# Altium schematic symbol library domino-rising-cage-clamp.SchLib: 435 symbols (part 1 of 7)
Pins are listed as number, name and electrical type; pins without a type are passive.

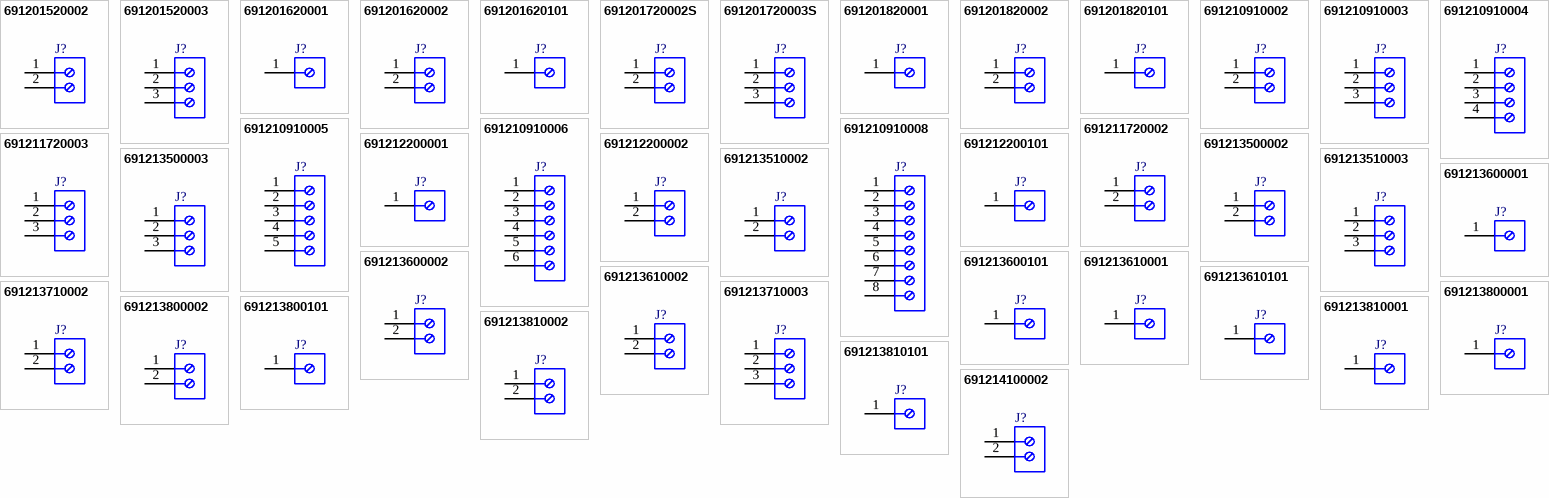
[diagram p0: symbols 691201520002 to 691214100002]

## 691201520002
designator J?
WR-TBL Serie 2015 45deg Entry Modular, Rising Cage Clamp, pitch 5.08mm, 2p; Part Number: 691201520002; Compliance: ROHS & Reach; Modularity: Yes; PCB/Cable/Panel: PCB; Pin Number: 2; Rated Current [UL]: 16A; Working Voltage [UL]: 300VAC; ComponentLink1Description: Manufacturer; ComponentLink1URL: http://www.we-online.de; ComponentLink2URL: https://katalog.we-online.de/em/datasheet/691201520002.pdf; ComponentLink2Description: Datasheet; Mounting Technology: THT; Packaging: Box; Operating Temperature: -30 to +120degC; Pitch: 5.08mm; Published Date: October 2019; Type: 45deg; Publisher: Wurth Elektronik; Application: Rising Cage Clamp
footprint 691201520002
pins: 1, 2

## 691201520003
designator J?
WR-TBL Serie 2015 45deg Entry Modular, Rising Cage Clamp, pitch 5.08mm, 3p; Part Number: 691201520003; Compliance: ROHS & Reach; Modularity: Yes; PCB/Cable/Panel: PCB; Pin Number: 3; Rated Current [UL]: 16A; Working Voltage [UL]: 300VAC; ComponentLink1Description: Manufacturer; ComponentLink1URL: http://www.we-online.de; ComponentLink2URL: https://katalog.we-online.de/em/datasheet/691201520003.pdf; ComponentLink2Description: Datasheet; Mounting Technology: THT; Packaging: Box; Operating Temperature: -30 to +120degC; Pitch: 5.08mm; Published Date: October 2019; Type: 45deg; Publisher: Wurth Elektronik; Application: Rising Cage Clamp
footprint 691201520003
pins: 1, 2, 3

## 691201620001
designator J?
WR-TBL Serie 2016 45deg Entry, Rising Cage Clamp, pitch 10.16mm, 1p; Part Number: 691201620001; Compliance: Lead free / RoHS; Modularity: Yes; PCB/Cable/Panel: PCB; Pin Number: 1; Rated Current [UL]: 16A; Working Voltage [UL]: 300VAC; ComponentLink1Description: Manufacturer; ComponentLink1URL: http://www.we-online.de; ComponentLink2URL: https://katalog.we-online.de/em/datasheet/691201620001.pdf; ComponentLink2Description: Datasheet; Mounting Technology: THT; Packaging: Box; Operating Temperature: -30 to +120degC; Pitch: 10.16mm; Published Date: October 2019; Type: 45deg; Publisher: Wurth Elektronik; Application: Rising Cage Clamp
footprint 691201620001
pins: 1

## 691201620002
designator J?
WR-TBL Serie 2016 45deg Entry, Rising Cage Clamp, pitch 10.16mm, 2p; Part Number: 691201620002; Compliance: Lead free / RoHS; Modularity: Yes; PCB/Cable/Panel: PCB; Pin Number: 2; Rated Current [UL]: 16A; Working Voltage [UL]: 300VAC; ComponentLink1Description: Manufacturer; ComponentLink1URL: http://www.we-online.de; ComponentLink2URL: https://katalog.we-online.de/em/datasheet/691201620002.pdf; ComponentLink2Description: Datasheet; Mounting Technology: THT; Packaging: Box; Operating Temperature: -30 to +120degC; Pitch: 10.16mm; Published Date: October 2019; Type: 45deg; Publisher: Wurth Elektronik; Application: Rising Cage Clamp
footprint 691201620002
pins: 1, 2

## 691201620101
designator J?
WR-TBL Serie 2016 45deg Entry, Rising Cage Clamp, pitch 10.16mm, 1p; Part Number: 691201620101; Compliance: Lead free / RoHS; Modularity: Yes; PCB/Cable/Panel: PCB; Pin Number: 1; Rated Current [UL]: 16A; Working Voltage [UL]: 300VAC; ComponentLink1Description: Manufacturer; ComponentLink1URL: http://www.we-online.de; ComponentLink2URL: https://katalog.we-online.de/em/datasheet/691201620101.pdf; ComponentLink2Description: Datasheet; Mounting Technology: THT; Packaging: Box; Operating Temperature: -30 to +120degC; Pitch: 10.16mm; Published Date: October 2019; Type: 45deg; Publisher: Wurth Elektronik; Application: Rising Cage Clamp
footprint 691201620101
pins: 1

## 691201720002S
designator J?
WR-TBL Serie 201S 45deg Entry Modular, Rising Cage Clamp, pitch 5mm, 2p; Part Number: 691201720002S; Compliance: Lead free / RoHS; Modularity: Yes; PCB/Cable/Panel: PCB; Pin Number: 2; Rated Current [UL]: 16A; Working Voltage [UL]: 300VAC; ComponentLink1Description: Manufacturer; ComponentLink1URL: http://www.we-online.de; ComponentLink2URL: https://katalog.we-online.de/em/datasheet/691201720002S.pdf; ComponentLink2Description: Datasheet; Mounting Technology: THT; Packaging: Box; Operating Temperature: -30 to +120degC; Pitch: 5mm; Published Date: October 2019; Type: 45deg; Publisher: Wurth Elektronik; Application: Rising Cage Clamp
footprint 691201720002S
pins: 1, 2

## 691201720003S
designator J?
WR-TBL Serie 201S 45deg Entry Modular, Rising Cage Clamp, pitch 5mm, 3p; Part Number: 691201720003S; Compliance: Lead free / RoHS; Modularity: Yes; PCB/Cable/Panel: PCB; Pin Number: 3; Rated Current [UL]: 16A; Working Voltage [UL]: 300VAC; ComponentLink1Description: Manufacturer; ComponentLink1URL: http://www.we-online.de; ComponentLink2URL: https://katalog.we-online.de/em/datasheet/691201720003S.pdf; ComponentLink2Description: Datasheet; Mounting Technology: THT; Packaging: Box; Operating Temperature: -30 to +120degC; Pitch: 5mm; Published Date: October 2019; Type: 45deg; Publisher: Wurth Elektronik; Application: Rising Cage Clamp
footprint 691201720003S
pins: 1, 2, 3

## 691201820001
designator J?
WR-TBL Serie 2018 45deg Entry, Rising Cage Clamp, pitch 10mm, 1p; Part Number: 691201820001; Compliance: Lead free / RoHS; Modularity: Yes; PCB/Cable/Panel: PCB; Pin Number: 1; Rated Current [UL]: 16A; Working Voltage [UL]: 300VAC; ComponentLink1Description: Manufacturer; ComponentLink1URL: http://www.we-online.de; ComponentLink2URL: https://katalog.we-online.de/em/datasheet/691201820001.pdf; ComponentLink2Description: Datasheet; Mounting Technology: THT; Packaging: Box; Operating Temperature: -30 to +120degC; Pitch: 10mm; Published Date: October 2019; Type: 45deg; Publisher: Wurth Elektronik; Application: Rising Cage Clamp
footprint 691201820001
pins: 1

## 691201820002
designator J?
WR-TBL Serie 2018 45deg Entry, Rising Cage Clamp, pitch 10mm, 2p; Part Number: 691201820002; Compliance: Lead free / RoHS; Modularity: Yes; PCB/Cable/Panel: PCB; Pin Number: 2; Rated Current [UL]: 16A; Working Voltage [UL]: 300VAC; ComponentLink1Description: Manufacturer; ComponentLink1URL: http://www.we-online.de; ComponentLink2URL: https://katalog.we-online.de/em/datasheet/691201820002.pdf; ComponentLink2Description: Datasheet; Mounting Technology: THT; Packaging: Box; Operating Temperature: -30 to +120degC; Pitch: 10mm; Published Date: October 2019; Type: 45deg; Publisher: Wurth Elektronik; Application: Rising Cage Clamp
footprint 691201820002
pins: 1, 2

## 691201820101
designator J?
WR-TBL Serie 2018 45deg Entry, Rising Cage Clamp, pitch 10mm, 1p; Part Number: 691201820101; Compliance: Lead free / RoHS; Modularity: Yes; PCB/Cable/Panel: PCB; Pin Number: 1; Rated Current [UL]: 16A; Working Voltage [UL]: 300VAC; ComponentLink1Description: Manufacturer; ComponentLink1URL: http://www.we-online.de; ComponentLink2URL: https://katalog.we-online.de/em/datasheet/691201820101.pdf; ComponentLink2Description: Datasheet; Mounting Technology: THT; Packaging: Box; Operating Temperature: -30 to +120degC; Pitch: 10mm; Published Date: October 2019; Type: 45deg; Publisher: Wurth Elektronik; Application: Rising Cage Clamp
footprint 691201820101
pins: 1

## 691210910002
designator J?
WR-TBL Serie 2109 Horizontal Entry, Rising Cage Clamp, pitch 2.54mm, 2p; Part Number: 691210910002; Compliance: Lead free / RoHS; Modularity: No; PCB/Cable/Panel: PCB; Pin Number: 2; Rated Current [UL]: 6A; Working Voltage [UL]: 150VAC; ComponentLink1Description: Manufacturer; ComponentLink1URL: http://www.we-online.de; ComponentLink2URL: https://katalog.we-online.de/em/datasheet/691210910002.pdf; ComponentLink2Description: Datasheet; Mounting Technology: THT; Packaging: Box; Operating Temperature: -40 to +105degC; Pitch: 2.54mm; Published Date: October 2019; Type: Horizontal; Publisher: Wurth Elektronik; Application: Rising Cage Clamp
footprint 691210910002
pins: 1, 2

## 691210910003
designator J?
WR-TBL Serie 2109 Horizontal Entry, Rising Cage Clamp, pitch 2.54mm, 3p; Part Number: 691210910003; Compliance: Lead free / RoHS; Modularity: No; PCB/Cable/Panel: PCB; Pin Number: 3; Rated Current [UL]: 6A; Working Voltage [UL]: 150VAC; ComponentLink1Description: Manufacturer; ComponentLink1URL: http://www.we-online.de; ComponentLink2URL: https://katalog.we-online.de/em/datasheet/691210910003.pdf; ComponentLink2Description: Datasheet; Mounting Technology: THT; Packaging: Box; Operating Temperature: -40 to +105degC; Pitch: 2.54mm; Published Date: October 2019; Type: Horizontal; Publisher: Wurth Elektronik; Application: Rising Cage Clamp
footprint 691210910003
pins: 1, 2, 3

## 691210910004
designator J?
WR-TBL Serie 2109 Horizontal Entry, Rising Cage Clamp, pitch 2.54mm, 4p; Part Number: 691210910004; Compliance: Lead free / RoHS; Modularity: No; PCB/Cable/Panel: PCB; Pin Number: 4; Rated Current [UL]: 6A; Working Voltage [UL]: 150VAC; ComponentLink1Description: Manufacturer; ComponentLink1URL: http://www.we-online.de; ComponentLink2URL: https://katalog.we-online.de/em/datasheet/691210910004.pdf; ComponentLink2Description: Datasheet; Mounting Technology: THT; Packaging: Box; Operating Temperature: -40 to +105degC; Pitch: 2.54mm; Published Date: October 2019; Type: Horizontal; Publisher: Wurth Elektronik; Application: Rising Cage Clamp
footprint 691210910004
pins: 1, 2, 3, 4

## 691210910005
designator J?
WR-TBL Serie 2109 Horizontal Entry, Rising Cage Clamp, pitch 2.54mm, 5p; Part Number: 691210910005; Compliance: Lead free / RoHS; Modularity: No; PCB/Cable/Panel: PCB; Pin Number: 5; Rated Current [UL]: 6A; Working Voltage [UL]: 150VAC; ComponentLink1Description: Manufacturer; ComponentLink1URL: http://www.we-online.de; ComponentLink2URL: https://katalog.we-online.de/em/datasheet/691210910005.pdf; ComponentLink2Description: Datasheet; Mounting Technology: THT; Packaging: Box; Operating Temperature: -40 to +105degC; Pitch: 2.54mm; Published Date: October 2019; Type: Horizontal; Publisher: Wurth Elektronik; Application: Rising Cage Clamp
footprint 691210910005
pins: 1, 2, 3, 4, 5

## 691210910006
designator J?
WR-TBL Serie 2109 Horizontal Entry, Rising Cage Clamp, pitch 2.54mm, 6p; Part Number: 691210910006; Compliance: Lead free / RoHS; Modularity: No; PCB/Cable/Panel: PCB; Pin Number: 6; Rated Current [UL]: 6A; Working Voltage [UL]: 150VAC; ComponentLink1Description: Manufacturer; ComponentLink1URL: http://www.we-online.de; ComponentLink2URL: https://katalog.we-online.de/em/datasheet/691210910006.pdf; ComponentLink2Description: Datasheet; Mounting Technology: THT; Packaging: Box; Operating Temperature: -40 to +105degC; Pitch: 2.54mm; Published Date: October 2019; Type: Horizontal; Publisher: Wurth Elektronik; Application: Rising Cage Clamp
footprint 691210910006
pins: 1, 2, 3, 4, 5, 6

## 691210910008
designator J?
WR-TBL Serie 2109 Horizontal Entry, Rising Cage Clamp, pitch 2.54mm, 8p; Part Number: 691210910008; Compliance: Lead free / RoHS; Modularity: No; PCB/Cable/Panel: PCB; Pin Number: 8; Rated Current [UL]: 6A; Working Voltage [UL]: 150VAC; ComponentLink1Description: Manufacturer; ComponentLink1URL: http://www.we-online.de; ComponentLink2URL: https://katalog.we-online.de/em/datasheet/691210910008.pdf; ComponentLink2Description: Datasheet; Mounting Technology: THT; Packaging: Box; Operating Temperature: -40 to +105degC; Pitch: 2.54mm; Published Date: October 2019; Type: Horizontal; Publisher: Wurth Elektronik; Application: Rising Cage Clamp
footprint 691210910008
pins: 1, 2, 3, 4, 5, 6, 7, 8

## 691211720002
designator J?
WR-TBL Serie 211 45deg Entry Modular, Rising Cage Clamp, pitch 5mm, 2p; Part Number: 691211720002; Compliance: Lead free / RoHS; Modularity: Yes; PCB/Cable/Panel: PCB; Pin Number: 2; Rated Current [UL]: 10A; Working Voltage [UL]: 300VAC; ComponentLink1Description: Manufacturer; ComponentLink1URL: http://www.we-online.de; ComponentLink2URL: https://katalog.we-online.de/em/datasheet/691211720002.pdf; ComponentLink2Description: Datasheet; Mounting Technology: THT; Packaging: Box; Operating Temperature: -40 to +105degC; Pitch: 5mm; Published Date: October 2019; Type: 45deg; Publisher: Wurth Elektronik; Application: Rising Cage Clamp
footprint 691211720002
pins: 1, 2

## 691211720003
designator J?
WR-TBL Serie 211 45deg Entry Modular, Rising Cage Clamp, pitch 5mm, 3p; Part Number: 691211720003; Compliance: Lead free / RoHS; Modularity: Yes; PCB/Cable/Panel: PCB; Pin Number: 3; Rated Current [UL]: 10A; Working Voltage [UL]: 300VAC; ComponentLink1Description: Manufacturer; ComponentLink1URL: http://www.we-online.de; ComponentLink2URL: https://katalog.we-online.de/em/datasheet/691211720003.pdf; ComponentLink2Description: Datasheet; Mounting Technology: THT; Packaging: Box; Operating Temperature: -40 to +105degC; Pitch: 5mm; Published Date: October 2019; Type: 45deg; Publisher: Wurth Elektronik; Application: Rising Cage Clamp
footprint 691211720003
pins: 1, 2, 3

## 691212200001
designator J?
WR-TBL Serie 2122 Vertical Cable Entry, Rising Cage Clamp, pitch 7mm, 1p; Part Number: 691212200001; Compliance: Lead free / RoHS; Modularity: Yes; PCB/Cable/Panel: PCB; Pin Number: 1; Rated Current [UL]: 10A; Working Voltage [UL]: 300VAC; ComponentLink1Description: Manufacturer; ComponentLink1URL: http://www.we-online.de; ComponentLink2URL: https://katalog.we-online.de/em/datasheet/691212200001.pdf; ComponentLink2Description: Datasheet; Mounting Technology: THT; Packaging: Box; Operating Temperature: -30 to +120degC; Pitch: 7mm; Published Date: October 2019; Type: Vertical; Publisher: Wurth Elektronik; Application: Rising Cage Clamp
footprint 691212200001
pins: 1

## 691212200002
designator J?
WR-TBL Serie 2122 Vertical Cable Entry, Rising Cage Clamp, pitch 7mm, 2p; Part Number: 691212200002; Compliance: Lead free / RoHS; Modularity: Yes; PCB/Cable/Panel: PCB; Pin Number: 2; Rated Current [UL]: 10A; Working Voltage [UL]: 300VAC; ComponentLink1Description: Manufacturer; ComponentLink1URL: http://www.we-online.de; ComponentLink2URL: https://katalog.we-online.de/em/datasheet/691212200002.pdf; ComponentLink2Description: Datasheet; Mounting Technology: THT; Packaging: Box; Operating Temperature: -30 to +120degC; Pitch: 7mm; Published Date: October 2019; Type: Vertical; Publisher: Wurth Elektronik; Application: Rising Cage Clamp
footprint 691212200002
pins: 1, 2

## 691212200101
designator J?
WR-TBL Serie 2122 Vertical Cable Entry, Rising Cage Clamp, pitch 7mm, 1p; Part Number: 691212200101; Compliance: Lead free / RoHS; Modularity: Yes; PCB/Cable/Panel: PCB; Pin Number: 1; Rated Current [UL]: 10A; Working Voltage [UL]: 300VAC; ComponentLink1Description: Manufacturer; ComponentLink1URL: http://www.we-online.de; ComponentLink2URL: https://katalog.we-online.de/em/datasheet/691212200101.pdf; ComponentLink2Description: Datasheet; Mounting Technology: THT; Packaging: Box; Operating Temperature: -30 to +120degC; Pitch: 7mm; Published Date: October 2019; Type: Vertical; Publisher: Wurth Elektronik; Application: Rising Cage Clamp
footprint 691212200101
pins: 1

## 691213500002
designator J?
WR-TBL Serie 2135 Vertical Entry Modular, Rising Cage Clamp, pitch 5.08mm, 2p; Part Number: 691213500002; Compliance: RoHS; Modularity: Yes; PCB/Cable/Panel: PCB; Pin Number: 2; Rated Current [UL]: 14A; Working Voltage [UL]: 300VAC; ComponentLink1Description: Manufacturer; ComponentLink1URL: http://www.we-online.de; ComponentLink2URL: https://katalog.we-online.de/em/datasheet/691213500002.pdf; ComponentLink2Description: Datasheet; Mounting Technology: THT; Packaging: Box; Operating Temperature: -30 to +120degC; Pitch: 5.08mm; Published Date: October 2019; Type: Vertical; Publisher: Wurth Elektronik; Application: Rising Cage Clamp
footprint 691213500002
pins: 1, 2

## 691213500003
designator J?
WR-TBL Serie 2135 Vertical Entry Modular, Rising Cage Clamp, pitch 5.08mm, 3p; Part Number: 691213500003; Compliance: RoHS; Modularity: Yes; PCB/Cable/Panel: PCB; Pin Number: 3; Rated Current [UL]: 14A; Working Voltage [UL]: 300VAC; ComponentLink1Description: Manufacturer; ComponentLink1URL: http://www.we-online.de; ComponentLink2URL: https://katalog.we-online.de/em/datasheet/691213500003.pdf; ComponentLink2Description: Datasheet; Mounting Technology: THT; Packaging: Box; Operating Temperature: -30 to +120degC; Pitch: 5.08mm; Published Date: October 2019; Type: Vertical; Publisher: Wurth Elektronik; Application: Rising Cage Clamp
footprint 691213500003
pins: 1, 2, 3

## 691213510002
designator J?
WR-TBL Serie 2135 Horizontal Entry Modular, Rising Cage Clamp, pitch 5.08mm, 2p; Part Number: 691213510002; Compliance: ROHS & Reach; Modularity: Yes; PCB/Cable/Panel: PCB; Pin Number: 2; Rated Current [UL]: 14A; Working Voltage [UL]: 300VAC; ComponentLink1Description: Manufacturer; ComponentLink1URL: http://www.we-online.de; ComponentLink2URL: https://katalog.we-online.de/em/datasheet/691213510002.pdf; ComponentLink2Description: Datasheet; Mounting Technology: THT; Packaging: Box; Operating Temperature: -30 to +120degC; Pitch: 5.08mm; Published Date: October 2019; Type: Horizontal; Publisher: Wurth Elektronik; Application: Rising Cage Clamp
footprint 691213510002
pins: 1, 2

## 691213510003
designator J?
WR-TBL Serie 2135 Horizontal Entry Modular, Rising Cage Clamp, pitch 5.08mm, 3p; Part Number: 691213510003; Compliance: ROHS & Reach; Modularity: Yes; PCB/Cable/Panel: PCB; Pin Number: 3; Rated Current [UL]: 14A; Working Voltage [UL]: 300VAC; ComponentLink1Description: Manufacturer; ComponentLink1URL: http://www.we-online.de; ComponentLink2URL: https://katalog.we-online.de/em/datasheet/691213510003.pdf; ComponentLink2Description: Datasheet; Mounting Technology: THT; Packaging: Box; Operating Temperature: -30 to +120degC; Pitch: 5.08mm; Published Date: October 2019; Type: Horizontal; Publisher: Wurth Elektronik; Application: Rising Cage Clamp
footprint 691213510003
pins: 1, 2, 3

## 691213600001
designator J?
WR-TBL Serie 2136 Vertical Entry, Rising Cage Clamp, pitch 10.16mm, 1p; Part Number: 691213600001; Compliance: Lead free / RoHS; Modularity: Yes; PCB/Cable/Panel: PCB; Pin Number: 1; Rated Current [UL]: 14A; Working Voltage [UL]: 300VAC; ComponentLink1Description: Manufacturer; ComponentLink1URL: http://www.we-online.de; ComponentLink2URL: https://katalog.we-online.de/em/datasheet/691213600001.pdf; ComponentLink2Description: Datasheet; Mounting Technology: THT; Packaging: Box; Operating Temperature: -30 to +120degC; Pitch: 10.16mm; Published Date: October 2019; Type: Vertical; Publisher: Wurth Elektronik; Application: Rising Cage Clamp
footprint 691213600001
pins: 1

## 691213600002
designator J?
WR-TBL Serie 2136 Vertical Entry, Rising Cage Clamp, pitch 10.16mm, 2p; Part Number: 691213600002; Compliance: Lead free / RoHS; Modularity: Yes; PCB/Cable/Panel: PCB; Pin Number: 2; Rated Current [UL]: 14A; Working Voltage [UL]: 300VAC; ComponentLink1Description: Manufacturer; ComponentLink1URL: http://www.we-online.de; ComponentLink2URL: https://katalog.we-online.de/em/datasheet/691213600002.pdf; ComponentLink2Description: Datasheet; Mounting Technology: THT; Packaging: Box; Operating Temperature: -30 to +120degC; Pitch: 10.16mm; Published Date: October 2019; Type: Vertical; Publisher: Wurth Elektronik; Application: Rising Cage Clamp
footprint 691213600002
pins: 1, 2

## 691213600101
designator J?
WR-TBL Serie 2136 Vertical Entry, Rising Cage Clamp, pitch 10.16mm, 1p; Part Number: 691213600101; Compliance: Lead free / RoHS; Modularity: Yes; PCB/Cable/Panel: PCB; Pin Number: 1; Rated Current [UL]: 14A; Working Voltage [UL]: 300VAC; ComponentLink1Description: Manufacturer; ComponentLink1URL: http://www.we-online.de; ComponentLink2URL: https://katalog.we-online.de/em/datasheet/691213600101.pdf; ComponentLink2Description: Datasheet; Mounting Technology: THT; Packaging: Box; Operating Temperature: -30 to +120degC; Pitch: 10.16mm; Published Date: October 2019; Type: Vertical; Publisher: Wurth Elektronik; Application: Rising Cage Clamp
footprint 691213600101
pins: 1

## 691213610001
designator J?
WR-TBL Serie 2136 Horizontal Entry, Rising Cage Clamp, pitch 10.16mm, 1p; Part Number: 691213610001; Compliance: Lead free / RoHS; Modularity: Yes; PCB/Cable/Panel: PCB; Pin Number: 1; Rated Current [UL]: 14A; Working Voltage [UL]: 300VAC; ComponentLink1Description: Manufacturer; ComponentLink1URL: http://www.we-online.de; ComponentLink2URL: https://katalog.we-online.de/em/datasheet/691213610001.pdf; ComponentLink2Description: Datasheet; Mounting Technology: THT; Packaging: Box; Operating Temperature: -30 to +120degC; Pitch: 10.16mm; Published Date: October 2019; Type: Horizontal; Publisher: Wurth Elektronik; Application: Rising Cage Clamp
footprint 691213610001
pins: 1

## 691213610002
designator J?
WR-TBL Serie 2136 Horizontal Entry, Rising Cage Clamp, pitch 10.16mm, 2p; Part Number: 691213610002; Compliance: Lead free / RoHS; Modularity: Yes; PCB/Cable/Panel: PCB; Pin Number: 2; Rated Current [UL]: 14A; Working Voltage [UL]: 300VAC; ComponentLink1Description: Manufacturer; ComponentLink1URL: http://www.we-online.de; ComponentLink2URL: https://katalog.we-online.de/em/datasheet/691213610002.pdf; ComponentLink2Description: Datasheet; Mounting Technology: THT; Packaging: Box; Operating Temperature: -30 to +120degC; Pitch: 10.16mm; Published Date: October 2019; Type: Horizontal; Publisher: Wurth Elektronik; Application: Rising Cage Clamp
footprint 691213610002
pins: 1, 2

## 691213610101
designator J?
WR-TBL Serie 2136 Horizontal Entry, Rising Cage Clamp, pitch 10.16mm, 1p; Part Number: 691213610101; Compliance: Lead free / RoHS; Modularity: Yes; PCB/Cable/Panel: PCB; Pin Number: 1; Rated Current [UL]: 14A; Working Voltage [UL]: 300VAC; ComponentLink1Description: Manufacturer; ComponentLink1URL: http://www.we-online.de; ComponentLink2URL: https://katalog.we-online.de/em/datasheet/691213610101.pdf; ComponentLink2Description: Datasheet; Mounting Technology: THT; Packaging: Box; Operating Temperature: -30 to +120degC; Pitch: 10.16mm; Published Date: October 2019; Type: Horizontal; Publisher: Wurth Elektronik; Application: Rising Cage Clamp
footprint 691213610101
pins: 1

## 691213710002
designator J?
WR-TBL Serie 213 Horizontal Entry Modular, Rising Cage Clamp, pitch 5mm, 2p; Part Number: 691213710002; Compliance: Lead free / RoHS; Modularity: Yes; PCB/Cable/Panel: PCB; Pin Number: 2; Rated Current [UL]: 10A; Working Voltage [UL]: 300VAC; ComponentLink1Description: Manufacturer; ComponentLink1URL: http://www.we-online.de; ComponentLink2URL: https://katalog.we-online.de/em/datasheet/691213710002.pdf; ComponentLink2Description: Datasheet; Mounting Technology: THT; Packaging: Box; Operating Temperature: -40 to +105degC; Pitch: 5mm; Published Date: October 2019; Type: Horizontal; Publisher: Wurth Elektronik; Application: Rising Cage Clamp
footprint 691213710002
pins: 1, 2

## 691213710003
designator J?
WR-TBL Serie 213 Horizontal Entry Modular, Rising Cage Clamp, pitch 5mm, 3p; Part Number: 691213710003; Compliance: Lead free / RoHS; Modularity: Yes; PCB/Cable/Panel: PCB; Pin Number: 3; Rated Current [UL]: 10A; Working Voltage [UL]: 300VAC; ComponentLink1Description: Manufacturer; ComponentLink1URL: http://www.we-online.de; ComponentLink2URL: https://katalog.we-online.de/em/datasheet/691213710003.pdf; ComponentLink2Description: Datasheet; Mounting Technology: THT; Packaging: Box; Operating Temperature: -40 to +105degC; Pitch: 5mm; Published Date: October 2019; Type: Horizontal; Publisher: Wurth Elektronik; Application: Rising Cage Clamp
footprint 691213710003
pins: 1, 2, 3

## 691213800001
designator J?
WR-TBL Serie 2138 Vertical Entry, Rising Cage Clamp, pitch 10mm, 1p; Part Number: 691213800001; Compliance: Lead free / RoHS; Modularity: Yes; PCB/Cable/Panel: PCB; Pin Number: 1; Rated Current [UL]: 14A; Working Voltage [UL]: 300VAC; ComponentLink1Description: Manufacturer; ComponentLink1URL: http://www.we-online.de; ComponentLink2URL: https://katalog.we-online.de/em/datasheet/691213800001.pdf; ComponentLink2Description: Datasheet; Mounting Technology: THT; Packaging: Box; Operating Temperature: -30 to +120degC; Pitch: 10mm; Published Date: October 2019; Type: Vertical; Publisher: Wurth Elektronik; Application: Rising Cage Clamp
footprint 691213800001
pins: 1

## 691213800002
designator J?
WR-TBL Serie 2138 Vertical Entry, Rising Cage Clamp, pitch 10mm, 2p; Part Number: 691213800002; Compliance: Lead free / RoHS; Modularity: Yes; PCB/Cable/Panel: PCB; Pin Number: 2; Rated Current [UL]: 14A; Working Voltage [UL]: 300VAC; ComponentLink1Description: Manufacturer; ComponentLink1URL: http://www.we-online.de; ComponentLink2URL: https://katalog.we-online.de/em/datasheet/691213800002.pdf; ComponentLink2Description: Datasheet; Mounting Technology: THT; Packaging: Box; Operating Temperature: -30 to +120degC; Pitch: 10mm; Published Date: October 2019; Type: Vertical; Publisher: Wurth Elektronik; Application: Rising Cage Clamp
footprint 691213800002
pins: 1, 2

## 691213800101
designator J?
WR-TBL Serie 2138 Vertical Entry, Rising Cage Clamp, pitch 10mm, 1p; Part Number: 691213800101; Compliance: Lead free / RoHS; Modularity: Yes; PCB/Cable/Panel: PCB; Pin Number: 1; Rated Current [UL]: 14A; Working Voltage [UL]: 300VAC; ComponentLink1Description: Manufacturer; ComponentLink1URL: http://www.we-online.de; ComponentLink2URL: https://katalog.we-online.de/em/datasheet/691213800101.pdf; ComponentLink2Description: Datasheet; Mounting Technology: THT; Packaging: Box; Operating Temperature: -30 to +120degC; Pitch: 10mm; Published Date: October 2019; Type: Vertical; Publisher: Wurth Elektronik; Application: Rising Cage Clamp
footprint 691213800101
pins: 1

## 691213810001
designator J?
WR-TBL Serie 2138 Horizontal Entry, Rising Cage Clamp, pitch 10mm, 1p; Part Number: 691213810001; Compliance: Lead free / RoHS; Modularity: Yes; PCB/Cable/Panel: PCB; Pin Number: 1; Rated Current [UL]: 14A; Working Voltage [UL]: 300VAC; ComponentLink1Description: Manufacturer; ComponentLink1URL: http://www.we-online.de; ComponentLink2URL: https://katalog.we-online.de/em/datasheet/691213810001.pdf; ComponentLink2Description: Datasheet; Mounting Technology: THT; Packaging: Box; Operating Temperature: -30 to +120degC; Pitch: 10mm; Published Date: October 2019; Type: Horizontal; Publisher: Wurth Elektronik; Application: Rising Cage Clamp
footprint 691213810001
pins: 1

## 691213810002
designator J?
WR-TBL Serie 2138 Horizontal Entry, Rising Cage Clamp, pitch 10mm, 2p; Part Number: 691213810002; Compliance: Lead free / RoHS; Modularity: Yes; PCB/Cable/Panel: PCB; Pin Number: 2; Rated Current [UL]: 14A; Working Voltage [UL]: 300VAC; ComponentLink1Description: Manufacturer; ComponentLink1URL: http://www.we-online.de; ComponentLink2URL: https://katalog.we-online.de/em/datasheet/691213810002.pdf; ComponentLink2Description: Datasheet; Mounting Technology: THT; Packaging: Box; Operating Temperature: -30 to +120degC; Pitch: 10mm; Published Date: October 2019; Type: Horizontal; Publisher: Wurth Elektronik; Application: Rising Cage Clamp
footprint 691213810002
pins: 1, 2

## 691213810101
designator J?
WR-TBL Serie 2138 Horizontal Entry, Rising Cage Clamp, pitch 10mm, 1p; Part Number: 691213810101; Compliance: Lead free / RoHS; Modularity: Yes; PCB/Cable/Panel: PCB; Pin Number: 1; Rated Current [UL]: 14A; Working Voltage [UL]: 300VAC; ComponentLink1Description: Manufacturer; ComponentLink1URL: http://www.we-online.de; ComponentLink2URL: https://katalog.we-online.de/em/datasheet/691213810101.pdf; ComponentLink2Description: Datasheet; Mounting Technology: THT; Packaging: Box; Operating Temperature: -30 to +120degC; Pitch: 10mm; Published Date: October 2019; Type: Horizontal; Publisher: Wurth Elektronik; Application: Rising Cage Clamp
footprint 691213810101
pins: 1

## 691214100002
designator J?
WR-TBL Serie 2141 Vertical Entry Modular, Rising Cage Clamp, pitch 3.5mm, 2p; Part Number: 691214100002; Compliance: Lead free / RoHS; Modularity: Yes; PCB/Cable/Panel: PCB; Pin Number: 2; Rated Current [UL]: 10A; Working Voltage [UL]: 300VAC; ComponentLink1Description: Manufacturer; ComponentLink1URL: http://www.we-online.de; ComponentLink2URL: https://katalog.we-online.de/em/datasheet/691214100002.pdf; ComponentLink2Description: Datasheet; Mounting Technology: THT; Packaging: Box; Operating Temperature: -30 to +120degC; Pitch: 3.5mm; Published Date: October 2019; Type: Vertical; Publisher: Wurth Elektronik; Application: Rising Cage Clamp
footprint 691214100002
pins: 1, 2

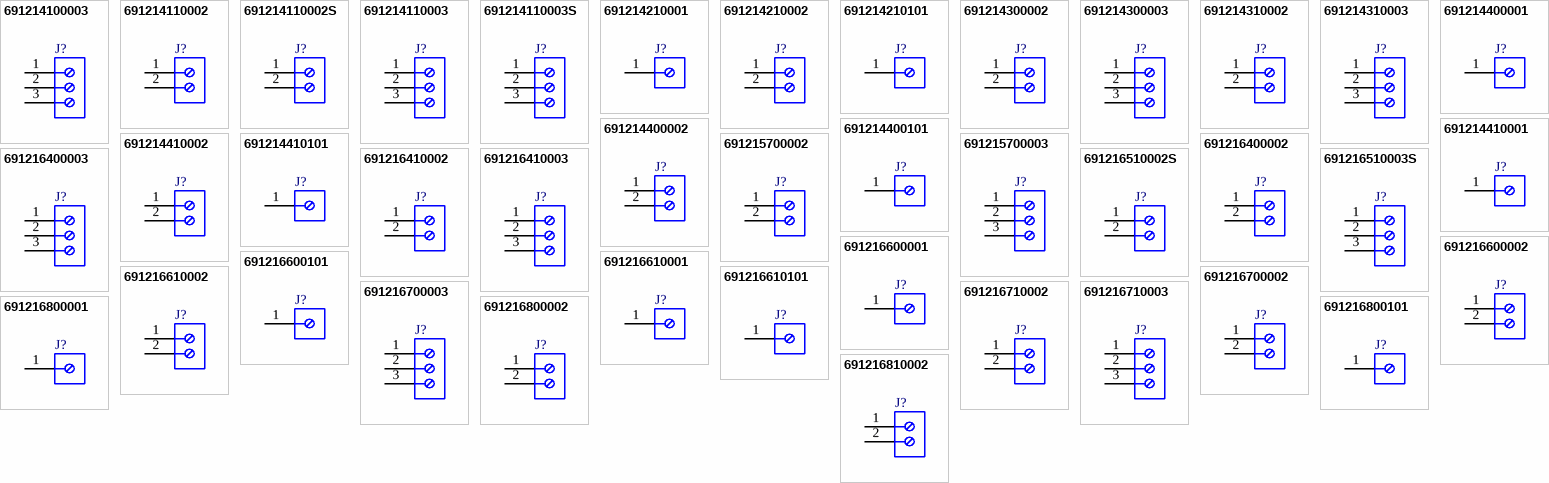
[diagram p1: symbols 691214100003 to 691216810002]

## 691214100003
designator J?
WR-TBL Serie 2141 Vertical Entry Modular, Rising Cage Clamp, pitch 3.5mm, 3p; Part Number: 691214100003; Compliance: Lead free / RoHS; Modularity: Yes; PCB/Cable/Panel: PCB; Pin Number: 3; Rated Current [UL]: 10A; Working Voltage [UL]: 300VAC; ComponentLink1Description: Manufacturer; ComponentLink1URL: http://www.we-online.de; ComponentLink2URL: https://katalog.we-online.de/em/datasheet/691214100003.pdf; ComponentLink2Description: Datasheet; Mounting Technology: THT; Packaging: Box; Operating Temperature: -30 to +120degC; Pitch: 3.5mm; Published Date: October 2019; Type: Vertical; Publisher: Wurth Elektronik; Application: Rising Cage Clamp
footprint 691214100003
pins: 1, 2, 3

## 691214110002
designator J?
WR-TBL Serie 2141 Horizontal Entry Modular, Rising Cage Clamp, pitch 3.5mm, 2p; Part Number: 691214110002; Compliance: Lead free / RoHS; Modularity: Yes; PCB/Cable/Panel: PCB; Pin Number: 2; Rated Current [UL]: 10A; Working Voltage [UL]: 300VAC; ComponentLink1Description: Manufacturer; ComponentLink1URL: http://www.we-online.de; ComponentLink2URL: https://katalog.we-online.de/em/datasheet/691214110002.pdf; ComponentLink2Description: Datasheet; Mounting Technology: THT; Packaging: Box; Operating Temperature: -40 to +105degC; Pitch: 3.5mm; Published Date: October 2019; Type: Horizontal; Publisher: Wurth Elektronik; Application: Rising Cage Clamp
footprint 691214110002
pins: 1, 2

## 691214110002S
designator J?
WR-TBL Serie 2141S Horizontal Entry Modular, Rising Cage Clamp, pitch 3.5mm, 2p; Part Number: 691214110002S; Compliance: Lead free / RoHS; Modularity: Yes; PCB/Cable/Panel: PCB; Pin Number: 2; Rated Current [UL]: 10A; Working Voltage [UL]: 300VAC; ComponentLink1Description: Manufacturer; ComponentLink1URL: http://www.we-online.de; ComponentLink2URL: https://katalog.we-online.de/em/datasheet/691214110002S.pdf; ComponentLink2Description: Datasheet; Mounting Technology: THT; Packaging: Box; Operating Temperature: -30 to +120degC; Pitch: 3.5mm; Published Date: October 2019; Type: Horizontal; Publisher: Wurth Elektronik; Application: Rising Cage Clamp
footprint 691214110002S
pins: 1, 2

## 691214110003
designator J?
WR-TBL Serie 2141 Horizontal Entry Modular, Rising Cage Clamp, pitch 3.5mm, 3p; Part Number: 691214110003; Compliance: Lead free / RoHS; Modularity: Yes; PCB/Cable/Panel: PCB; Pin Number: 3; Rated Current [UL]: 10A; Working Voltage [UL]: 300VAC; ComponentLink1Description: Manufacturer; ComponentLink1URL: http://www.we-online.de; ComponentLink2URL: https://katalog.we-online.de/em/datasheet/691214110003.pdf; ComponentLink2Description: Datasheet; Mounting Technology: THT; Packaging: Box; Operating Temperature: -40 to +105degC; Pitch: 3.5mm; Published Date: October 2019; Type: Horizontal; Publisher: Wurth Elektronik; Application: Rising Cage Clamp
footprint 691214110003
pins: 1, 2, 3

## 691214110003S
designator J?
WR-TBL Serie 2141S Horizontal Entry Modular, Rising Cage Clamp, pitch 3.5mm, 3p; Part Number: 691214110003S; Compliance: Lead free / RoHS; Modularity: Yes; PCB/Cable/Panel: PCB; Pin Number: 3; Rated Current [UL]: 10A; Working Voltage [UL]: 300VAC; ComponentLink1Description: Manufacturer; ComponentLink1URL: http://www.we-online.de; ComponentLink2URL: https://katalog.we-online.de/em/datasheet/691214110003S.pdf; ComponentLink2Description: Datasheet; Mounting Technology: THT; Packaging: Box; Operating Temperature: -30 to +120degC; Pitch: 3.5mm; Published Date: October 2019; Type: Horizontal; Publisher: Wurth Elektronik; Application: Rising Cage Clamp
footprint 691214110003S
pins: 1, 2, 3

## 691214210001
designator J?
WR-TBL Serie 2142 Horizontal Entry, Rising Cage Clamp, pitch 7mm, 1p; Part Number: 691214210001; Compliance: Lead free / RoHS; Modularity: Yes; PCB/Cable/Panel: PCB; Pin Number: 1; Rated Current [UL]: 10A; Working Voltage [UL]: 300VAC; ComponentLink1Description: Manufacturer; ComponentLink1URL: http://www.we-online.de; ComponentLink2URL: https://katalog.we-online.de/em/datasheet/691214210001.pdf; ComponentLink2Description: Datasheet; Mounting Technology: THT; Packaging: Box; Operating Temperature: -30 to +120degC; Pitch: 7mm; Published Date: October 2019; Type: Horizontal; Publisher: Wurth Elektronik; Application: Rising Cage Clamp
footprint 691214210001
pins: 1

## 691214210002
designator J?
WR-TBL Serie 2142 Horizontal Entry, Rising Cage Clamp, pitch 7mm, 2p; Part Number: 691214210002; Compliance: Lead free / RoHS; Modularity: Yes; PCB/Cable/Panel: PCB; Pin Number: 2; Rated Current [UL]: 10A; Working Voltage [UL]: 300VAC; ComponentLink1Description: Manufacturer; ComponentLink1URL: http://www.we-online.de; ComponentLink2URL: https://katalog.we-online.de/em/datasheet/691214210002.pdf; ComponentLink2Description: Datasheet; Mounting Technology: THT; Packaging: Box; Operating Temperature: -30 to +120degC; Pitch: 7mm; Published Date: October 2019; Type: Horizontal; Publisher: Wurth Elektronik; Application: Rising Cage Clamp
footprint 691214210002
pins: 1, 2

## 691214210101
designator J?
WR-TBL Serie 2142 Horizontal Entry, Rising Cage Clamp, pitch 7mm, 1p; Part Number: 691214210101; Compliance: Lead free / RoHS; Modularity: Yes; PCB/Cable/Panel: PCB; Pin Number: 1; Rated Current [UL]: 10A; Working Voltage [UL]: 300VAC; ComponentLink1Description: Manufacturer; ComponentLink1URL: http://www.we-online.de; ComponentLink2URL: https://katalog.we-online.de/em/datasheet/691214210101.pdf; ComponentLink2Description: Datasheet; Mounting Technology: THT; Packaging: Box; Operating Temperature: -30 to +120degC; Pitch: 7mm; Published Date: October 2019; Type: Horizontal; Publisher: Wurth Elektronik; Application: Rising Cage Clamp
footprint 691214210101
pins: 1

## 691214300002
designator J?
WR-TBL Serie 2143 Vertical Entry Modular, Rising Cage Clamp, pitch 3.81mm, 2p; Part Number: 691214300002; Compliance: Lead free / RoHS; Modularity: Yes; PCB/Cable/Panel: PCB; Pin Number: 2; Rated Current [UL]: 10A; Working Voltage [UL]: 300VAC; ComponentLink1Description: Manufacturer; ComponentLink1URL: http://www.we-online.de; ComponentLink2URL: https://katalog.we-online.de/em/datasheet/691214300002.pdf; ComponentLink2Description: Datasheet; Mounting Technology: THT; Packaging: Box; Operating Temperature: -30 to +120degC; Pitch: 3.81mm; Published Date: October 2019; Type: Vertical; Publisher: Wurth Elektronik; Application: Rising Cage Clamp
footprint 691214300002
pins: 1, 2

## 691214300003
designator J?
WR-TBL Serie 2143 Vertical Entry Modular, Rising Cage Clamp, pitch 3.81mm, 3p; Part Number: 691214300003; Compliance: Lead free / RoHS; Modularity: Yes; PCB/Cable/Panel: PCB; Pin Number: 3; Rated Current [UL]: 10A; Working Voltage [UL]: 300VAC; ComponentLink1Description: Manufacturer; ComponentLink1URL: http://www.we-online.de; ComponentLink2URL: https://katalog.we-online.de/em/datasheet/691214300003.pdf; ComponentLink2Description: Datasheet; Mounting Technology: THT; Packaging: Box; Operating Temperature: -30 to +120degC; Pitch: 3.81mm; Published Date: October 2019; Type: Vertical; Publisher: Wurth Elektronik; Application: Rising Cage Clamp
footprint 691214300003
pins: 1, 2, 3

## 691214310002
designator J?
WR-TBL Serie 2143 Horizontal Entry Modular, Rising Cage Clamp, pitch 3.81mm, 2p; Part Number: 691214310002; Compliance: Lead free / RoHS; Modularity: Yes; PCB/Cable/Panel: PCB; Pin Number: 2; Rated Current [UL]: 10A; Working Voltage [UL]: 300VAC; ComponentLink1Description: Manufacturer; ComponentLink1URL: http://www.we-online.de; ComponentLink2URL: https://katalog.we-online.de/em/datasheet/691214310002.pdf; ComponentLink2Description: Datasheet; Mounting Technology: THT; Packaging: Box; Operating Temperature: -40 to +105degC; Pitch: 3.81mm; Published Date: October 2019; Type: Horizontal; Publisher: Wurth Elektronik; Application: Rising Cage Clamp
footprint 691214310002
pins: 1, 2

## 691214310003
designator J?
WR-TBL Serie 2143 Horizontal Entry Modular, Rising Cage Clamp, pitch 3.81mm, 3p; Part Number: 691214310003; Compliance: Lead free / RoHS; Modularity: Yes; PCB/Cable/Panel: PCB; Pin Number: 3; Rated Current [UL]: 10A; Working Voltage [UL]: 300VAC; ComponentLink1Description: Manufacturer; ComponentLink1URL: http://www.we-online.de; ComponentLink2URL: https://katalog.we-online.de/em/datasheet/691214310003.pdf; ComponentLink2Description: Datasheet; Mounting Technology: THT; Packaging: Box; Operating Temperature: -40 to +105degC; Pitch: 3.81mm; Published Date: October 2019; Type: Horizontal; Publisher: Wurth Elektronik; Application: Rising Cage Clamp
footprint 691214310003
pins: 1, 2, 3

## 691214400001
designator J?
WR-TBL Serie 2144 Vertical Cable Entry, Rising Cage Clamp, pitch 7.62mm, 1p; Part Number: 691214400001; Compliance: Lead free / RoHS; Modularity: Yes; PCB/Cable/Panel: PCB; Pin Number: 1; Rated Current [UL]: 10A; Working Voltage [UL]: 300VAC; ComponentLink1Description: Manufacturer; ComponentLink1URL: http://www.we-online.de; ComponentLink2URL: https://katalog.we-online.de/em/datasheet/691214400001.pdf; ComponentLink2Description: Datasheet; Mounting Technology: THT; Packaging: Box; Operating Temperature: -30 to +120degC; Pitch: 7.62mm; Published Date: October 2019; Type: Vertical; Publisher: Wurth Elektronik; Application: Rising Cage Clamp
footprint 691214400001
pins: 1

## 691214400002
designator J?
WR-TBL Serie 2144 Vertical Cable Entry, Rising Cage Clamp, pitch 7.62mm, 2p; Part Number: 691214400002; Compliance: Lead free / RoHS; Modularity: Yes; PCB/Cable/Panel: PCB; Pin Number: 2; Rated Current [UL]: 10A; Working Voltage [UL]: 300VAC; ComponentLink1Description: Manufacturer; ComponentLink1URL: http://www.we-online.de; ComponentLink2URL: https://katalog.we-online.de/em/datasheet/691214400002.pdf; ComponentLink2Description: Datasheet; Mounting Technology: THT; Packaging: Box; Operating Temperature: -30 to +120degC; Pitch: 7.62mm; Published Date: October 2019; Type: Vertical; Publisher: Wurth Elektronik; Application: Rising Cage Clamp
footprint 691214400002
pins: 1, 2

## 691214400101
designator J?
WR-TBL Serie 2144 Vertical Cable Entry, Rising Cage Clamp, pitch 7.62mm, 1p; Part Number: 691214400101; Compliance: Lead free / RoHS; Modularity: Yes; PCB/Cable/Panel: PCB; Pin Number: 1; Rated Current [UL]: 10A; Working Voltage [UL]: 300VAC; ComponentLink1Description: Manufacturer; ComponentLink1URL: http://www.we-online.de; ComponentLink2URL: https://katalog.we-online.de/em/datasheet/691214400101.pdf; ComponentLink2Description: Datasheet; Mounting Technology: THT; Packaging: Box; Operating Temperature: -30 to +120degC; Pitch: 7.62mm; Published Date: October 2019; Type: Vertical; Publisher: Wurth Elektronik; Application: Rising Cage Clamp
footprint 691214400101
pins: 1

## 691214410001
designator J?
WR-TBL Serie 2144 Horizontal Entry, Rising Cage Clamp, pitch 7.62mm, 1p; Part Number: 691214410001; Compliance: Lead free / RoHS; Modularity: Yes; PCB/Cable/Panel: PCB; Pin Number: 1; Rated Current [UL]: 10A; Working Voltage [UL]: 300VAC; ComponentLink1Description: Manufacturer; ComponentLink1URL: http://www.we-online.de; ComponentLink2URL: https://katalog.we-online.de/em/datasheet/691214410001.pdf; ComponentLink2Description: Datasheet; Mounting Technology: THT; Packaging: Box; Operating Temperature: -30 to +120degC; Pitch: 7.62mm; Published Date: October 2019; Type: Horizontal; Publisher: Wurth Elektronik; Application: Rising Cage Clamp
footprint 691214410001
pins: 1

## 691214410002
designator J?
WR-TBL Serie 2144 Horizontal Entry, Rising Cage Clamp, pitch 7.62mm, 2p; Part Number: 691214410002; Compliance: Lead free / RoHS; Modularity: Yes; PCB/Cable/Panel: PCB; Pin Number: 2; Rated Current [UL]: 10A; Working Voltage [UL]: 300VAC; ComponentLink1Description: Manufacturer; ComponentLink1URL: http://www.we-online.de; ComponentLink2URL: https://katalog.we-online.de/em/datasheet/691214410002.pdf; ComponentLink2Description: Datasheet; Mounting Technology: THT; Packaging: Box; Operating Temperature: -30 to +120degC; Pitch: 7.62mm; Published Date: October 2019; Type: Horizontal; Publisher: Wurth Elektronik; Application: Rising Cage Clamp
footprint 691214410002
pins: 1, 2

## 691214410101
designator J?
WR-TBL Serie 2144 Horizontal Entry, Rising Cage Clamp, pitch 7.62mm, 1p; Part Number: 691214410101; Compliance: Lead free / RoHS; Modularity: Yes; PCB/Cable/Panel: PCB; Pin Number: 1; Rated Current [UL]: 10A; Working Voltage [UL]: 300VAC; ComponentLink1Description: Manufacturer; ComponentLink1URL: http://www.we-online.de; ComponentLink2URL: https://katalog.we-online.de/em/datasheet/691214410101.pdf; ComponentLink2Description: Datasheet; Mounting Technology: THT; Packaging: Box; Operating Temperature: -30 to +120degC; Pitch: 7.62mm; Published Date: October 2019; Type: Horizontal; Publisher: Wurth Elektronik; Application: Rising Cage Clamp
footprint 691214410101
pins: 1

## 691215700002
designator J?
WR-TBL Serie 2157 Vertical Entry Modular, Rising Cage Clamp, pitch 5mm, 2p; Part Number: 691215700002; Compliance: Lead free / RoHS; Modularity: Yes; PCB/Cable/Panel: PCB; Pin Number: 2; Rated Current [UL]: 20A; Working Voltage [UL]: 300VAC; ComponentLink1Description: Manufacturer; ComponentLink1URL: http://www.we-online.de; ComponentLink2URL: https://katalog.we-online.de/em/datasheet/691215700002.pdf; ComponentLink2Description: Datasheet; Mounting Technology: THT; Packaging: Box; Operating Temperature: -40 to +105degC; Pitch: 5mm; Published Date: October 2019; Type: Vertical; Publisher: Wurth Elektronik; Application: Rising Cage Clamp
footprint 691215700002
pins: 1, 2

## 691215700003
designator J?
WR-TBL Serie 2157 Vertical Entry Modular, Rising Cage Clamp, pitch 5mm, 3p; Part Number: 691215700003; Compliance: Lead free / RoHS; Modularity: Yes; PCB/Cable/Panel: PCB; Pin Number: 3; Rated Current [UL]: 20A; Working Voltage [UL]: 300VAC; ComponentLink1Description: Manufacturer; ComponentLink1URL: http://www.we-online.de; ComponentLink2URL: https://katalog.we-online.de/em/datasheet/691215700003.pdf; ComponentLink2Description: Datasheet; Mounting Technology: THT; Packaging: Box; Operating Temperature: -40 to +105degC; Pitch: 5mm; Published Date: October 2019; Type: Vertical; Publisher: Wurth Elektronik; Application: Rising Cage Clamp
footprint 691215700003
pins: 1, 2, 3

## 691216400002
designator J?
WR-TBL Serie 2164 Vertical Entry, Rising Cage Clamp, pitch 7.62mm, 2p; Part Number: 691216400002; Compliance: Lead free / RoHS; Modularity: Yes; PCB/Cable/Panel: PCB; Pin Number: 2; Rated Current [UL]: 14A; Working Voltage [UL]: 300VAC; ComponentLink1Description: Manufacturer; ComponentLink1URL: http://www.we-online.de; ComponentLink2URL: https://katalog.we-online.de/em/datasheet/691216400002.pdf; ComponentLink2Description: Datasheet; Mounting Technology: THT; Packaging: Box; Operating Temperature: -30 to +120degC; Pitch: 7.62mm; Published Date: October 2019; Type: Vertical; Publisher: Wurth Elektronik; Application: Rising Cage Clamp
footprint 691216400002
pins: 1, 2

## 691216400003
designator J?
WR-TBL Serie 2164 Vertical Entry, Rising Cage Clamp, pitch 7.62mm, 3p; Part Number: 691216400003; Compliance: Lead free / RoHS; Modularity: Yes; PCB/Cable/Panel: PCB; Pin Number: 3; Rated Current [UL]: 14A; Working Voltage [UL]: 300VAC; ComponentLink1Description: Manufacturer; ComponentLink1URL: http://www.we-online.de; ComponentLink2URL: https://katalog.we-online.de/em/datasheet/691216400003.pdf; ComponentLink2Description: Datasheet; Mounting Technology: THT; Packaging: Box; Operating Temperature: -30 to +120degC; Pitch: 7.62mm; Published Date: October 2019; Type: Vertical; Publisher: Wurth Elektronik; Application: Rising Cage Clamp
footprint 691216400003
pins: 1, 2, 3

## 691216410002
designator J?
WR-TBL Serie 2164 Horizontal Entry, Rising Cage Clamp, pitch 7.62mm, 2p; Part Number: 691216410002; Compliance: Lead free / RoHS; Modularity: Yes; PCB/Cable/Panel: PCB; Pin Number: 2; Rated Current [UL]: 14A; Working Voltage [UL]: 300VAC; ComponentLink1Description: Manufacturer; ComponentLink1URL: http://www.we-online.de; ComponentLink2URL: https://katalog.we-online.de/em/datasheet/691216410002.pdf; ComponentLink2Description: Datasheet; Mounting Technology: THT; Packaging: Box; Operating Temperature: -30 to +120degC; Pitch: 7.62mm; Published Date: October 2019; Type: Horizontal; Publisher: Wurth Elektronik; Application: Rising Cage Clamp
footprint 691216410002
pins: 1, 2

## 691216410003
designator J?
WR-TBL Serie 2164 Horizontal Entry, Rising Cage Clamp, pitch 7.62mm, 3p; Part Number: 691216410003; Compliance: Lead free / RoHS; Modularity: Yes; PCB/Cable/Panel: PCB; Pin Number: 3; Rated Current [UL]: 14A; Working Voltage [UL]: 300VAC; ComponentLink1Description: Manufacturer; ComponentLink1URL: http://www.we-online.de; ComponentLink2URL: https://katalog.we-online.de/em/datasheet/691216410003.pdf; ComponentLink2Description: Datasheet; Mounting Technology: THT; Packaging: Box; Operating Temperature: -30 to +120degC; Pitch: 7.62mm; Published Date: October 2019; Type: Horizontal; Publisher: Wurth Elektronik; Application: Rising Cage Clamp
footprint 691216410003
pins: 1, 2, 3

## 691216510002S
designator J?
WR-TBL Serie 2165S Horizontal Entry Modular, Rising Cage Clamp, pitch 5.08mm, 2p; Part Number: 691216510002S; Compliance: ROHS & Reach; Modularity: Yes; PCB/Cable/Panel: PCB; Pin Number: 2; Rated Current [UL]: 14A; Working Voltage [UL]: 300VAC; ComponentLink1Description: Manufacturer; ComponentLink1URL: http://www.we-online.de; ComponentLink2URL: https://katalog.we-online.de/em/datasheet/691216510002S.pdf; ComponentLink2Description: Datasheet; Mounting Technology: THT; Packaging: Box; Operating Temperature: -30 to +120degC; Pitch: 5.08mm; Published Date: October 2019; Type: Horizontal; Publisher: Wurth Elektronik; Application: Rising Cage Clamp
footprint 691216510002S
pins: 1, 2

## 691216510003S
designator J?
WR-TBL Serie 2165S Horizontal Entry Modular, Rising Cage Clamp, pitch 5.08mm, 3p; Part Number: 691216510003S; Compliance: ROHS & Reach; Modularity: Yes; PCB/Cable/Panel: PCB; Pin Number: 3; Rated Current [UL]: 14A; Working Voltage [UL]: 300VAC; ComponentLink1Description: Manufacturer; ComponentLink1URL: http://www.we-online.de; ComponentLink2URL: https://katalog.we-online.de/em/datasheet/691216510003S.pdf; ComponentLink2Description: Datasheet; Mounting Technology: THT; Packaging: Box; Operating Temperature: -30 to +120degC; Pitch: 5.08mm; Published Date: October 2019; Type: Horizontal; Publisher: Wurth Elektronik; Application: Rising Cage Clamp
footprint 691216510003S
pins: 1, 2, 3

## 691216600001
designator J?
WR-TBL Serie 2166 Vertical Entry, Rising Cage Clamp, pitch 10.16mm, 1p; Part Number: 691216600001; Compliance: Lead free / RoHS; Modularity: Yes; PCB/Cable/Panel: PCB; Pin Number: 1; Rated Current [UL]: 14A; Working Voltage [UL]: 300VAC; ComponentLink1Description: Manufacturer; ComponentLink1URL: http://www.we-online.de; ComponentLink2URL: https://katalog.we-online.de/em/datasheet/691216600001.pdf; ComponentLink2Description: Datasheet; Mounting Technology: THT; Packaging: Box; Operating Temperature: -30 to +120degC; Pitch: 10.16mm; Published Date: October 2019; Type: Vertical; Publisher: Wurth Elektronik; Application: Rising Cage Clamp
footprint 691216600001
pins: 1

## 691216600002
designator J?
WR-TBL Serie 2166 Vertical Entry, Rising Cage Clamp, pitch 10.16mm, 2p; Part Number: 691216600002; Compliance: Lead free / RoHS; Modularity: Yes; PCB/Cable/Panel: PCB; Pin Number: 2; Rated Current [UL]: 14A; Working Voltage [UL]: 300VAC; ComponentLink1Description: Manufacturer; ComponentLink1URL: http://www.we-online.de; ComponentLink2URL: https://katalog.we-online.de/em/datasheet/691216600002.pdf; ComponentLink2Description: Datasheet; Mounting Technology: THT; Packaging: Box; Operating Temperature: -30 to +120degC; Pitch: 10.16mm; Published Date: October 2019; Type: Vertical; Publisher: Wurth Elektronik; Application: Rising Cage Clamp
footprint 691216600002
pins: 1, 2

## 691216600101
designator J?
WR-TBL Serie 2166 Vertical Entry, Rising Cage Clamp, pitch 10.16mm, 1p; Part Number: 691216600101; Compliance: Lead free / RoHS; Modularity: Yes; PCB/Cable/Panel: PCB; Pin Number: 1; Rated Current [UL]: 14A; Working Voltage [UL]: 300VAC; ComponentLink1Description: Manufacturer; ComponentLink1URL: http://www.we-online.de; ComponentLink2URL: https://katalog.we-online.de/em/datasheet/691216600101.pdf; ComponentLink2Description: Datasheet; Mounting Technology: THT; Packaging: Box; Operating Temperature: -30 to +120degC; Pitch: 10.16mm; Published Date: October 2019; Type: Vertical; Publisher: Wurth Elektronik; Application: Rising Cage Clamp
footprint 691216600101
pins: 1

## 691216610001
designator J?
WR-TBL Serie 2166 Horizontal Entry, Rising Cage Clamp, pitch 10.16mm, 1p; Part Number: 691216610001; Compliance: Lead free / RoHS; Modularity: Yes; PCB/Cable/Panel: PCB; Pin Number: 1; Rated Current [UL]: 14A; Working Voltage [UL]: 300VAC; ComponentLink1Description: Manufacturer; ComponentLink1URL: http://www.we-online.de; ComponentLink2URL: https://katalog.we-online.de/em/datasheet/691216610001.pdf; ComponentLink2Description: Datasheet; Mounting Technology: THT; Packaging: Box; Operating Temperature: -30 to +120degC; Pitch: 10.16mm; Published Date: October 2019; Type: Horizontal; Publisher: Wurth Elektronik; Application: Rising Cage Clamp
footprint 691216610001
pins: 1